# EAGLE library part PAD30 (library T1200)
30-pin connector pad array. Pad size: 0.508 x 7.5 mm.
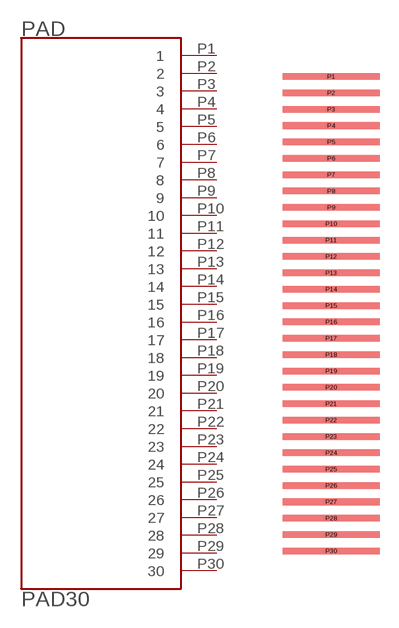
[diagram p1: symbol with the pads of PAD30; footprint PAD30]

Designator prefix PAD

## PAD30  [PAD30]
P1  1
P2  2
P3  3
P4  4
P5  5
P6  6
P7  7
P8  8
P9  9
P10  10
P11  11
P12  12
P13  13
P14  14
P15  15
P16  16
P17  17
P18  18
P19  19
P20  20
P21  21
P22  22
P23  23
P24  24
P25  25
P26  26
P27  27
P28  28
P29  29
P30  30

## Footprint PAD30 (pad centres in mm)
smd 7.5 x 0.508: P1 0,18.415; P2 0,17.145; P3 0,15.875; P4 0,14.605; P5 0,13.335; P6 0,12.065; P7 0,10.795; P8 0,9.525; P9 0,8.255; P10 0,6.985; P11 0,5.715; P12 0,4.445; P13 0,3.175; P14 0,1.905; P15 0,0.635; P16 0,-0.635; P17 0,-1.905; P18 0,-3.175; P19 0,-4.445; P20 0,-5.715; P21 0,-6.985; P22 0,-8.255; P23 0,-9.525; P24 0,-10.795; P25 0,-12.065; P26 0,-13.335; P27 0,-14.605; P28 0,-15.875; P29 0,-17.145; P30 0,-18.415